# Altium integrated library Micron Memory Parallel NOR Flash.IntLib: 720 symbols (part 38 of 216)
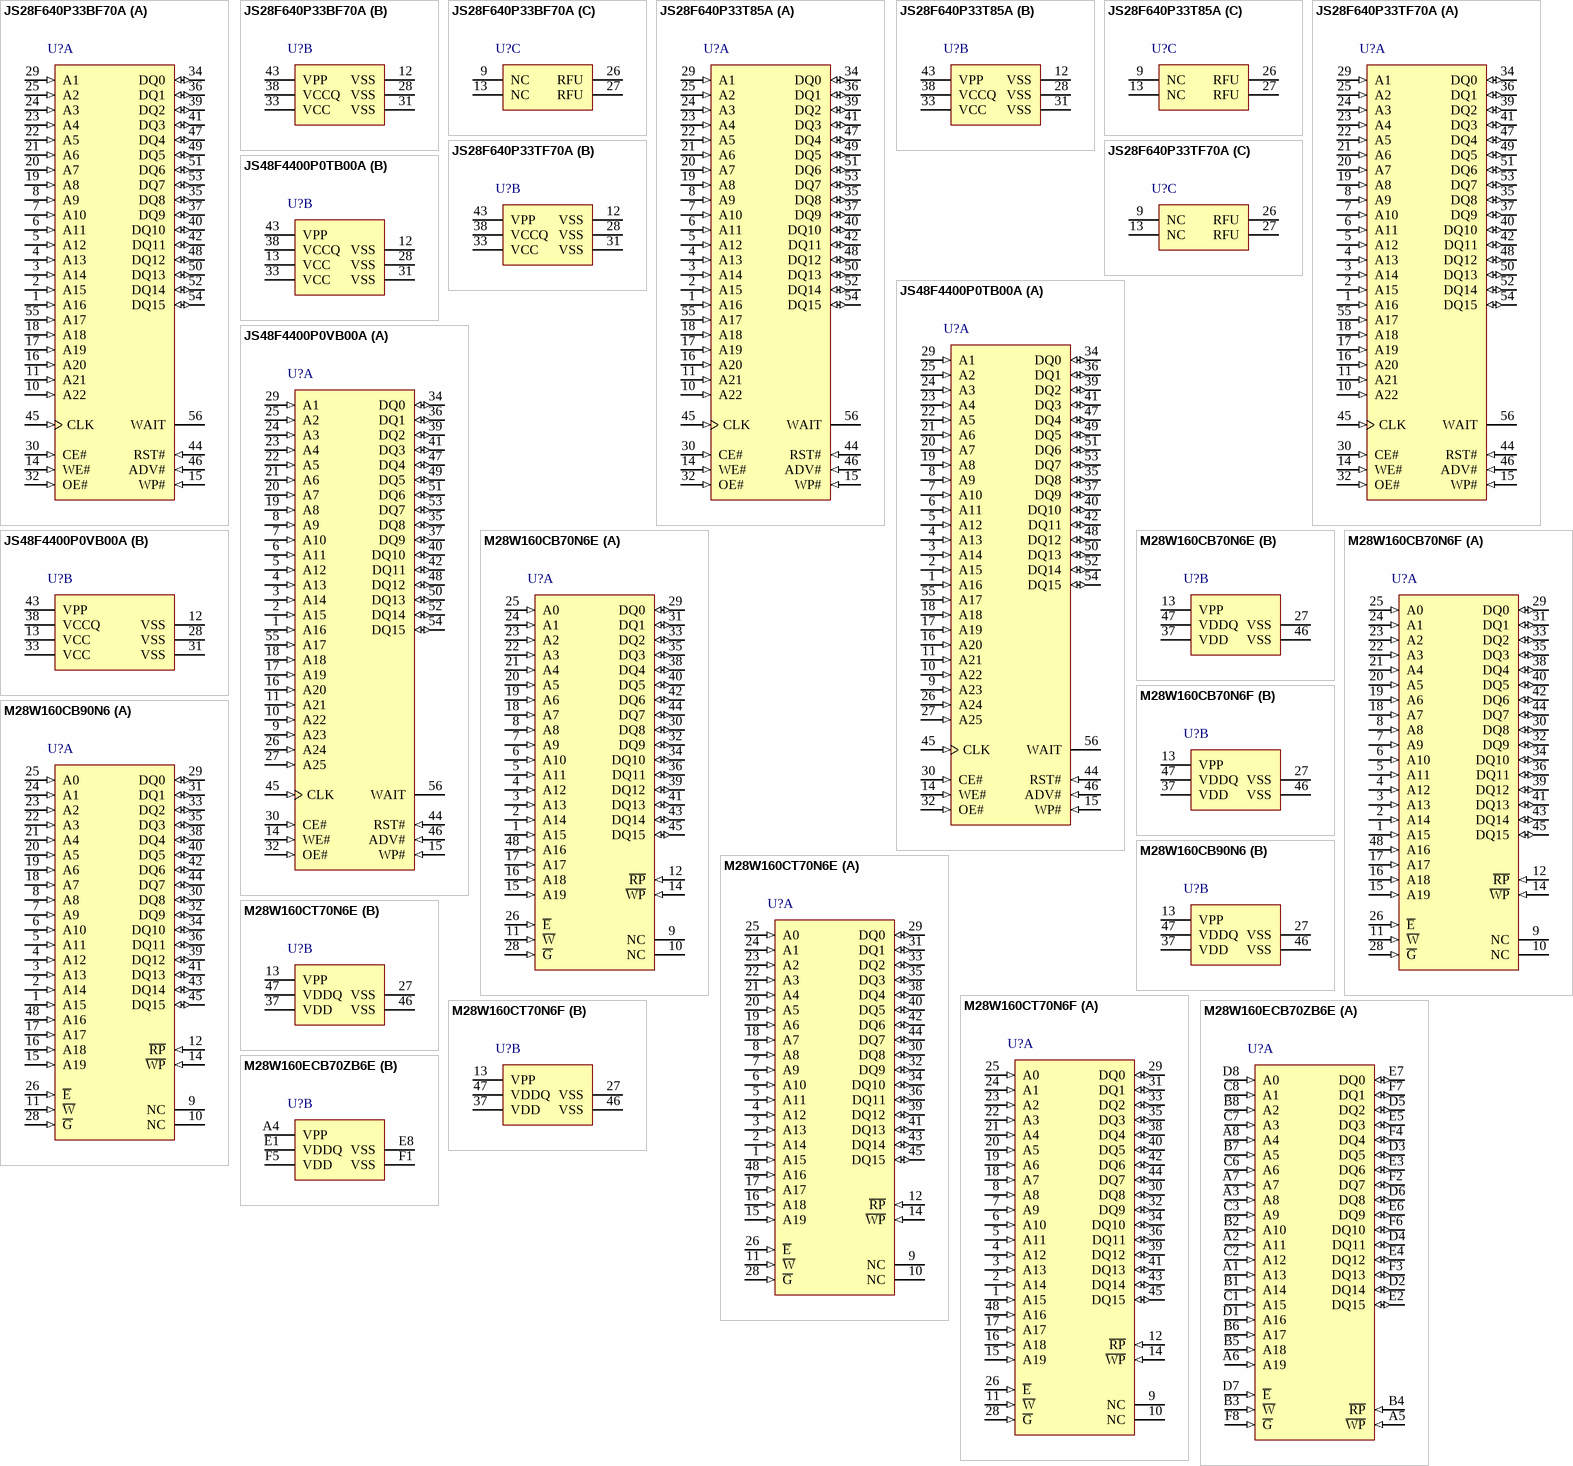
[diagram p95: symbols JS28F640P33BF70A to M28W160ECB70ZB6E]

## M28W160CB70N6E
designator U?
16 Mb (x16) Parallel NOR Flash Memory, 70 ns, 2.7 to 3.6 V, 48-pin TSOP (N), Tray; Part Family: M28W; Manufacturer: Micron; PartNumber: M28W160CB70N6E; Density: 16Mb; Op Temp: -40C to +85C; Speed: 70ns; Voltage: 2.7V-3.6V; DatasheetVersion: Rev.11; PackageVersion: Rev 11; PackageReference: MICT-N-48; PackageDescription: 48-Pin TSOP, 18.4 X 12 mm, Pitch 0.5 mm; RoHS: Yes; Width: x16; Mounting Technology: Surface Mount; ComponentLink1Description: Manufacturer URL; ComponentLink1URL: http://www.micron.com/; ComponentLink2Description: Datasheet; ComponentLink2URL: http://www.micron.com/~/media/Documents/Products/Data%20Sheet/NOR%20Flash/Parallel/M28W/M28W160C.pdf; ComponentLink3Description: Package Specification; ComponentLink3URL: http://www.micron.com/~/media/Documents/Products/Data%20Sheet/NOR%20Flash/Parallel/P30/306666_P30_130nm_Discrete_DS.pdf
footprint MICT-N-48_N (SOP, 48-Leads, Body 12x18.4mm, Pitch 0.5mm, IPC Medium Density)
part A pins: 1 A15 (in) "Address Input (A0-A19). The Address Input select the cells in the memory array to access during Bus Read operations. During Bus Write operations they control the commands sent to the Command Interface of the internal state (See Datasheet)", 2 A14 (in) "Address Input (A0-A19). The Address Input select the cells in the memory array to access during Bus Read operations. During Bus Write operations they control the commands sent to the Command Interface of the internal state (See Datasheet)", 3 A13 (in) "Address Input (A0-A19). The Address Input select the cells in the memory array to access during Bus Read operations. During Bus Write operations they control the commands sent to the Command Interface of the internal state (See Datasheet)", 4 A12 (in) "Address Input (A0-A19). The Address Input select the cells in the memory array to access during Bus Read operations. During Bus Write operations they control the commands sent to the Command Interface of the internal state (See Datasheet)", 5 A11 (in) "Address Input (A0-A19). The Address Input select the cells in the memory array to access during Bus Read operations. During Bus Write operations they control the commands sent to the Command Interface of the internal state (See Datasheet)", 6 A10 (in) "Address Input (A0-A19). The Address Input select the cells in the memory array to access during Bus Read operations. During Bus Write operations they control the commands sent to the Command Interface of the internal state (See Datasheet)", 7 A9 (in) "Address Input (A0-A19). The Address Input select the cells in the memory array to access during Bus Read operations. During Bus Write operations they control the commands sent to the Command Interface of the internal state (See Datasheet)", 8 A8 (in) "Address Input (A0-A19). The Address Input select the cells in the memory array to access during Bus Read operations. During Bus Write operations they control the commands sent to the Command Interface of the internal state (See Datasheet)", 9 NC "Not Connected Internally", 10 NC "Not Connected Internally", 11 ~{W} (in) "Write Enable (W\). The Write Enable controls the Bus Write operation of the memory’s Command Interface. The data and address inputs are latched on the rising edge of Chip Enable, E, or Write Enable, W\, whichever occurs (See Datasheet)", 12 ~{RP} (in) "Reset (R\P\). The Reset input provides a hardware reset of the memory. When Reset is at VIL, the memory is in reset mode: the outputs are high impedance and the current consumption is minimized. After Reset all blocks are in (See Datasheet)", 14 ~{WP} (in) "Write Protect (W\P\). Write Protect is an input that gives an additional hardware protection for each block. When Write Protect is at VIL, the Lock- Down is enabled and the protection status of the block cannot be changed. (See Datasheet)", 15 A19 (in) "Address Input (A0-A19). The Address Input select the cells in the memory array to access during Bus Read operations. During Bus Write operations they control the commands sent to the Command Interface of the internal state (See Datasheet)", 16 A18 (in) "Address Input (A0-A19). The Address Input select the cells in the memory array to access during Bus Read operations. During Bus Write operations they control the commands sent to the Command Interface of the internal state (See Datasheet)", 17 A17 (in) "Address Input (A0-A19). The Address Input select the cells in the memory array to access during Bus Read operations. During Bus Write operations they control the commands sent to the Command Interface of the internal state (See Datasheet)", 18 A7 (in) "Address Input (A0-A19). The Address Input select the cells in the memory array to access during Bus Read operations. During Bus Write operations they control the commands sent to the Command Interface of the internal state (See Datasheet)", 19 A6 (in) "Address Input (A0-A19). The Address Input select the cells in the memory array to access during Bus Read operations. During Bus Write operations they control the commands sent to the Command Interface of the internal state (See Datasheet)", 20 A5 (in) "Address Input (A0-A19). The Address Input select the cells in the memory array to access during Bus Read operations. During Bus Write operations they control the commands sent to the Command Interface of the internal state (See Datasheet)", 21 A4 (in) "Address Input (A0-A19). The Address Input select the cells in the memory array to access during Bus Read operations. During Bus Write operations they control the commands sent to the Command Interface of the internal state (See Datasheet)", 22 A3 (in) "Address Input (A0-A19). The Address Input select the cells in the memory array to access during Bus Read operations. During Bus Write operations they control the commands sent to the Command Interface of the internal state (See Datasheet)", 23 A2 (in) "Address Input (A0-A19). The Address Input select the cells in the memory array to access during Bus Read operations. During Bus Write operations they control the commands sent to the Command Interface of the internal state (See Datasheet)", 24 A1 (in) "Address Input (A0-A19). The Address Input select the cells in the memory array to access during Bus Read operations. During Bus Write operations they control the commands sent to the Command Interface of the internal state (See Datasheet)", 25 A0 (in) "Address Input (A0-A19). The Address Input select the cells in the memory array to access during Bus Read operations. During Bus Write operations they control the commands sent to the Command Interface of the internal state (See Datasheet)", 26 ~{E} (in) "Chip Enable (E\). The Chip Enable input activates the memory control logic, input buffers, decoders and sense amplifiers. When Chip Enable is at VILand Reset is at VIH the device is in active mode. When Chip Enable is at VIH (See Datasheet)", 28 ~{G} (in) "Output Enable (G\). The Output Enable controls data outputs during the Bus Read operation of the memory.", 29 DQ0 (io) "Data Input/Output (DQ0-DQ15). The Data I/O Output the data stored at the selected address during a Bus Read operation or input a command or the data to be programmed during a Write Bus operation.", 30 DQ8 (io) "Data Input/Output (DQ0-DQ15). The Data I/O Output the data stored at the selected address during a Bus Read operation or input a command or the data to be programmed during a Write Bus operation.", 31 DQ1 (io) "Data Input/Output (DQ0-DQ15). The Data I/O Output the data stored at the selected address during a Bus Read operation or input a command or the data to be programmed during a Write Bus operation.", 32 DQ9 (io) "Data Input/Output (DQ0-DQ15). The Data I/O Output the data stored at the selected address during a Bus Read operation or input a command or the data to be programmed during a Write Bus operation.", 33 DQ2 (io) "Data Input/Output (DQ0-DQ15). The Data I/O Output the data stored at the selected address during a Bus Read operation or input a command or the data to be programmed during a Write Bus operation.", 34 DQ10 (io) "Data Input/Output (DQ0-DQ15). The Data I/O Output the data stored at the selected address during a Bus Read operation or input a command or the data to be programmed during a Write Bus operation.", 35 DQ3 (io) "Data Input/Output (DQ0-DQ15). The Data I/O Output the data stored at the selected address during a Bus Read operation or input a command or the data to be programmed during a Write Bus operation.", 36 DQ11 (io) "Data Input/Output (DQ0-DQ15). The Data I/O Output the data stored at the selected address during a Bus Read operation or input a command or the data to be programmed during a Write Bus operation.", 38 DQ4 (io) "Data Input/Output (DQ0-DQ15). The Data I/O Output the data stored at the selected address during a Bus Read operation or input a command or the data to be programmed during a Write Bus operation.", 39 DQ12 (io) "Data Input/Output (DQ0-DQ15). The Data I/O Output the data stored at the selected address during a Bus Read operation or input a command or the data to be programmed during a Write Bus operation.", 40 DQ5 (io) "Data Input/Output (DQ0-DQ15). The Data I/O Output the data stored at the selected address during a Bus Read operation or input a command or the data to be programmed during a Write Bus operation.", 41 DQ13 (io) "Data Input/Output (DQ0-DQ15). The Data I/O Output the data stored at the selected address during a Bus Read operation or input a command or the data to be programmed during a Write Bus operation.", 42 DQ6 (io) "Data Input/Output (DQ0-DQ15). The Data I/O Output the data stored at the selected address during a Bus Read operation or input a command or the data to be programmed during a Write Bus operation.", 43 DQ14 (io) "Data Input/Output (DQ0-DQ15). The Data I/O Output the data stored at the selected address during a Bus Read operation or input a command or the data to be programmed during a Write Bus operation.", 44 DQ7 (io) "Data Input/Output (DQ0-DQ15). The Data I/O Output the data stored at the selected address during a Bus Read operation or input a command or the data to be programmed during a Write Bus operation.", 45 DQ15 (io) "Data Input/Output (DQ0-DQ15). The Data I/O Output the data stored at the selected address during a Bus Read operation or input a command or the data to be programmed during a Write Bus operation.", 48 A16 (in) "Address Input (A0-A19). The Address Input select the cells in the memory array to access during Bus Read operations. During Bus Write operations they control the commands sent to the Command Interface of the internal state (See Datasheet)"
part B pins: 13 VPP (power) "VPP Program Supply Voltage. VPP is both a control input and a power supply pin. The two functions are selected by the voltage range applied to the pin. The Supply Voltage VDD and the Program Supply Voltage VPP can be applied (See Datasheet)", 27 VSS (power) "VSS Ground. VSS is the reference for all voltage measurements.", 37 VDD (power) "VDD Supply Voltage. VDD provides the power supply to the internal core of the memory device. It is the main power supply for all operations (Read, Program and Erase).", 46 VSS (power) "VSS Ground. VSS is the reference for all voltage measurements.", 47 VDDQ (power) "VDDQ Supply Voltage. VDDQ provides the power supply to the I/O pins and enables all Outputs to be powered independently from VDD. VDDQ can be tied to VDD or can use a separate supply."

## M28W160CB70N6F
designator U?
16 Mb (x16) Parallel NOR Flash Memory, 70 ns, 2.7 to 3.6 V, 48-pin TSOP (N), Tape & Reel; Part Family: M28W; Manufacturer: Micron; PartNumber: M28W160CB70N6F; Density: 16Mb; Op Temp: -40C to +85C; Speed: 70ns; Voltage: 2.7V-3.6V; DatasheetVersion: Rev.11; PackageVersion: Rev 11; PackageReference: MICT-N-48; PackageDescription: 48-Pin TSOP, 18.4 X 12 mm, Pitch 0.5 mm; RoHS: Yes; Width: x16; Mounting Technology: Surface Mount; ComponentLink1Description: Manufacturer URL; ComponentLink1URL: http://www.micron.com/; ComponentLink2Description: Datasheet; ComponentLink2URL: http://www.micron.com/~/media/Documents/Products/Data%20Sheet/NOR%20Flash/Parallel/M28W/M28W160C.pdf; ComponentLink3Description: Package Specification; ComponentLink3URL: http://www.micron.com/~/media/Documents/Products/Data%20Sheet/NOR%20Flash/Parallel/P30/306666_P30_130nm_Discrete_DS.pdf
footprint MICT-N-48_N (SOP, 48-Leads, Body 12x18.4mm, Pitch 0.5mm, IPC Medium Density)
part A pins: 1 A15 (in) "Address Input (A0-A19). The Address Input select the cells in the memory array to access during Bus Read operations. During Bus Write operations they control the commands sent to the Command Interface of the internal state (See Datasheet)", 2 A14 (in) "Address Input (A0-A19). The Address Input select the cells in the memory array to access during Bus Read operations. During Bus Write operations they control the commands sent to the Command Interface of the internal state (See Datasheet)", 3 A13 (in) "Address Input (A0-A19). The Address Input select the cells in the memory array to access during Bus Read operations. During Bus Write operations they control the commands sent to the Command Interface of the internal state (See Datasheet)", 4 A12 (in) "Address Input (A0-A19). The Address Input select the cells in the memory array to access during Bus Read operations. During Bus Write operations they control the commands sent to the Command Interface of the internal state (See Datasheet)", 5 A11 (in) "Address Input (A0-A19). The Address Input select the cells in the memory array to access during Bus Read operations. During Bus Write operations they control the commands sent to the Command Interface of the internal state (See Datasheet)", 6 A10 (in) "Address Input (A0-A19). The Address Input select the cells in the memory array to access during Bus Read operations. During Bus Write operations they control the commands sent to the Command Interface of the internal state (See Datasheet)", 7 A9 (in) "Address Input (A0-A19). The Address Input select the cells in the memory array to access during Bus Read operations. During Bus Write operations they control the commands sent to the Command Interface of the internal state (See Datasheet)", 8 A8 (in) "Address Input (A0-A19). The Address Input select the cells in the memory array to access during Bus Read operations. During Bus Write operations they control the commands sent to the Command Interface of the internal state (See Datasheet)", 9 NC "Not Connected Internally", 10 NC "Not Connected Internally", 11 ~{W} (in) "Write Enable (W\). The Write Enable controls the Bus Write operation of the memory’s Command Interface. The data and address inputs are latched on the rising edge of Chip Enable, E, or Write Enable, W\, whichever occurs (See Datasheet)", 12 ~{RP} (in) "Reset (R\P\). The Reset input provides a hardware reset of the memory. When Reset is at VIL, the memory is in reset mode: the outputs are high impedance and the current consumption is minimized. After Reset all blocks are in (See Datasheet)", 14 ~{WP} (in) "Write Protect (W\P\). Write Protect is an input that gives an additional hardware protection for each block. When Write Protect is at VIL, the Lock- Down is enabled and the protection status of the block cannot be changed. (See Datasheet)", 15 A19 (in) "Address Input (A0-A19). The Address Input select the cells in the memory array to access during Bus Read operations. During Bus Write operations they control the commands sent to the Command Interface of the internal state (See Datasheet)", 16 A18 (in) "Address Input (A0-A19). The Address Input select the cells in the memory array to access during Bus Read operations. During Bus Write operations they control the commands sent to the Command Interface of the internal state (See Datasheet)", 17 A17 (in) "Address Input (A0-A19). The Address Input select the cells in the memory array to access during Bus Read operations. During Bus Write operations they control the commands sent to the Command Interface of the internal state (See Datasheet)", 18 A7 (in) "Address Input (A0-A19). The Address Input select the cells in the memory array to access during Bus Read operations. During Bus Write operations they control the commands sent to the Command Interface of the internal state (See Datasheet)", 19 A6 (in) "Address Input (A0-A19). The Address Input select the cells in the memory array to access during Bus Read operations. During Bus Write operations they control the commands sent to the Command Interface of the internal state (See Datasheet)", 20 A5 (in) "Address Input (A0-A19). The Address Input select the cells in the memory array to access during Bus Read operations. During Bus Write operations they control the commands sent to the Command Interface of the internal state (See Datasheet)", 21 A4 (in) "Address Input (A0-A19). The Address Input select the cells in the memory array to access during Bus Read operations. During Bus Write operations they control the commands sent to the Command Interface of the internal state (See Datasheet)", 22 A3 (in) "Address Input (A0-A19). The Address Input select the cells in the memory array to access during Bus Read operations. During Bus Write operations they control the commands sent to the Command Interface of the internal state (See Datasheet)", 23 A2 (in) "Address Input (A0-A19). The Address Input select the cells in the memory array to access during Bus Read operations. During Bus Write operations they control the commands sent to the Command Interface of the internal state (See Datasheet)", 24 A1 (in) "Address Input (A0-A19). The Address Input select the cells in the memory array to access during Bus Read operations. During Bus Write operations they control the commands sent to the Command Interface of the internal state (See Datasheet)", 25 A0 (in) "Address Input (A0-A19). The Address Input select the cells in the memory array to access during Bus Read operations. During Bus Write operations they control the commands sent to the Command Interface of the internal state (See Datasheet)", 26 ~{E} (in) "Chip Enable (E\). The Chip Enable input activates the memory control logic, input buffers, decoders and sense amplifiers. When Chip Enable is at VILand Reset is at VIH the device is in active mode. When Chip Enable is at VIH (See Datasheet)", 28 ~{G} (in) "Output Enable (G\). The Output Enable controls data outputs during the Bus Read operation of the memory.", 29 DQ0 (io) "Data Input/Output (DQ0-DQ15). The Data I/O Output the data stored at the selected address during a Bus Read operation or input a command or the data to be programmed during a Write Bus operation.", 30 DQ8 (io) "Data Input/Output (DQ0-DQ15). The Data I/O Output the data stored at the selected address during a Bus Read operation or input a command or the data to be programmed during a Write Bus operation.", 31 DQ1 (io) "Data Input/Output (DQ0-DQ15). The Data I/O Output the data stored at the selected address during a Bus Read operation or input a command or the data to be programmed during a Write Bus operation.", 32 DQ9 (io) "Data Input/Output (DQ0-DQ15). The Data I/O Output the data stored at the selected address during a Bus Read operation or input a command or the data to be programmed during a Write Bus operation.", 33 DQ2 (io) "Data Input/Output (DQ0-DQ15). The Data I/O Output the data stored at the selected address during a Bus Read operation or input a command or the data to be programmed during a Write Bus operation.", 34 DQ10 (io) "Data Input/Output (DQ0-DQ15). The Data I/O Output the data stored at the selected address during a Bus Read operation or input a command or the data to be programmed during a Write Bus operation.", 35 DQ3 (io) "Data Input/Output (DQ0-DQ15). The Data I/O Output the data stored at the selected address during a Bus Read operation or input a command or the data to be programmed during a Write Bus operation.", 36 DQ11 (io) "Data Input/Output (DQ0-DQ15). The Data I/O Output the data stored at the selected address during a Bus Read operation or input a command or the data to be programmed during a Write Bus operation.", 38 DQ4 (io) "Data Input/Output (DQ0-DQ15). The Data I/O Output the data stored at the selected address during a Bus Read operation or input a command or the data to be programmed during a Write Bus operation.", 39 DQ12 (io) "Data Input/Output (DQ0-DQ15). The Data I/O Output the data stored at the selected address during a Bus Read operation or input a command or the data to be programmed during a Write Bus operation.", 40 DQ5 (io) "Data Input/Output (DQ0-DQ15). The Data I/O Output the data stored at the selected address during a Bus Read operation or input a command or the data to be programmed during a Write Bus operation.", 41 DQ13 (io) "Data Input/Output (DQ0-DQ15). The Data I/O Output the data stored at the selected address during a Bus Read operation or input a command or the data to be programmed during a Write Bus operation.", 42 DQ6 (io) "Data Input/Output (DQ0-DQ15). The Data I/O Output the data stored at the selected address during a Bus Read operation or input a command or the data to be programmed during a Write Bus operation.", 43 DQ14 (io) "Data Input/Output (DQ0-DQ15). The Data I/O Output the data stored at the selected address during a Bus Read operation or input a command or the data to be programmed during a Write Bus operation.", 44 DQ7 (io) "Data Input/Output (DQ0-DQ15). The Data I/O Output the data stored at the selected address during a Bus Read operation or input a command or the data to be programmed during a Write Bus operation.", 45 DQ15 (io) "Data Input/Output (DQ0-DQ15). The Data I/O Output the data stored at the selected address during a Bus Read operation or input a command or the data to be programmed during a Write Bus operation.", 48 A16 (in) "Address Input (A0-A19). The Address Input select the cells in the memory array to access during Bus Read operations. During Bus Write operations they control the commands sent to the Command Interface of the internal state (See Datasheet)"
part B pins: 13 VPP (power) "VPP Program Supply Voltage. VPP is both a control input and a power supply pin. The two functions are selected by the voltage range applied to the pin. The Supply Voltage VDD and the Program Supply Voltage VPP can be applied (See Datasheet)", 27 VSS (power) "VSS Ground. VSS is the reference for all voltage measurements.", 37 VDD (power) "VDD Supply Voltage. VDD provides the power supply to the internal core of the memory device. It is the main power supply for all operations (Read, Program and Erase).", 46 VSS (power) "VSS Ground. VSS is the reference for all voltage measurements.", 47 VDDQ (power) "VDDQ Supply Voltage. VDDQ provides the power supply to the I/O pins and enables all Outputs to be powered independently from VDD. VDDQ can be tied to VDD or can use a separate supply."

## M28W160CB90N6
designator U?
16 Mb (x16) Parallel NOR Flash Memory, 90 ns, 2.7 to 3.6 V, 48-pin TSOP (N), Tray; Part Family: M28W; Manufacturer: Micron; PartNumber: M28W160CB90N6; Density: 16Mb; Op Temp: -40C to +85C; Speed: 90ns; Voltage: 2.7V-3.6V; DatasheetVersion: Rev.11; PackageVersion: Rev 11; PackageReference: MICT-N-48; PackageDescription: 48-Pin TSOP, 18.4 X 12 mm, Pitch 0.5 mm; RoHS: No; Width: x16; Mounting Technology: Surface Mount; ComponentLink1Description: Manufacturer URL; ComponentLink1URL: http://www.micron.com/; ComponentLink2Description: Datasheet; ComponentLink2URL: http://www.micron.com/~/media/Documents/Products/Data%20Sheet/NOR%20Flash/Parallel/M28W/M28W160C.pdf; ComponentLink3Description: Package Specification; ComponentLink3URL: http://www.micron.com/~/media/Documents/Products/Data%20Sheet/NOR%20Flash/Parallel/P30/306666_P30_130nm_Discrete_DS.pdf
footprint MICT-N-48_N (SOP, 48-Leads, Body 12x18.4mm, Pitch 0.5mm, IPC Medium Density)
part A pins: 1 A15 (in) "Address Input (A0-A19). The Address Input select the cells in the memory array to access during Bus Read operations. During Bus Write operations they control the commands sent to the Command Interface of the internal state (See Datasheet)", 2 A14 (in) "Address Input (A0-A19). The Address Input select the cells in the memory array to access during Bus Read operations. During Bus Write operations they control the commands sent to the Command Interface of the internal state (See Datasheet)", 3 A13 (in) "Address Input (A0-A19). The Address Input select the cells in the memory array to access during Bus Read operations. During Bus Write operations they control the commands sent to the Command Interface of the internal state (See Datasheet)", 4 A12 (in) "Address Input (A0-A19). The Address Input select the cells in the memory array to access during Bus Read operations. During Bus Write operations they control the commands sent to the Command Interface of the internal state (See Datasheet)", 5 A11 (in) "Address Input (A0-A19). The Address Input select the cells in the memory array to access during Bus Read operations. During Bus Write operations they control the commands sent to the Command Interface of the internal state (See Datasheet)", 6 A10 (in) "Address Input (A0-A19). The Address Input select the cells in the memory array to access during Bus Read operations. During Bus Write operations they control the commands sent to the Command Interface of the internal state (See Datasheet)", 7 A9 (in) "Address Input (A0-A19). The Address Input select the cells in the memory array to access during Bus Read operations. During Bus Write operations they control the commands sent to the Command Interface of the internal state (See Datasheet)", 8 A8 (in) "Address Input (A0-A19). The Address Input select the cells in the memory array to access during Bus Read operations. During Bus Write operations they control the commands sent to the Command Interface of the internal state (See Datasheet)", 9 NC "Not Connected Internally", 10 NC "Not Connected Internally", 11 ~{W} (in) "Write Enable (W\). The Write Enable controls the Bus Write operation of the memory’s Command Interface. The data and address inputs are latched on the rising edge of Chip Enable, E, or Write Enable, W\, whichever occurs (See Datasheet)", 12 ~{RP} (in) "Reset (R\P\). The Reset input provides a hardware reset of the memory. When Reset is at VIL, the memory is in reset mode: the outputs are high impedance and the current consumption is minimized. After Reset all blocks are in (See Datasheet)", 14 ~{WP} (in) "Write Protect (W\P\). Write Protect is an input that gives an additional hardware protection for each block. When Write Protect is at VIL, the Lock- Down is enabled and the protection status of the block cannot be changed. (See Datasheet)", 15 A19 (in) "Address Input (A0-A19). The Address Input select the cells in the memory array to access during Bus Read operations. During Bus Write operations they control the commands sent to the Command Interface of the internal state (See Datasheet)", 16 A18 (in) "Address Input (A0-A19). The Address Input select the cells in the memory array to access during Bus Read operations. During Bus Write operations they control the commands sent to the Command Interface of the internal state (See Datasheet)", 17 A17 (in) "Address Input (A0-A19). The Address Input select the cells in the memory array to access during Bus Read operations. During Bus Write operations they control the commands sent to the Command Interface of the internal state (See Datasheet)", 18 A7 (in) "Address Input (A0-A19). The Address Input select the cells in the memory array to access during Bus Read operations. During Bus Write operations they control the commands sent to the Command Interface of the internal state (See Datasheet)", 19 A6 (in) "Address Input (A0-A19). The Address Input select the cells in the memory array to access during Bus Read operations. During Bus Write operations they control the commands sent to the Command Interface of the internal state (See Datasheet)", 20 A5 (in) "Address Input (A0-A19). The Address Input select the cells in the memory array to access during Bus Read operations. During Bus Write operations they control the commands sent to the Command Interface of the internal state (See Datasheet)", 21 A4 (in) "Address Input (A0-A19). The Address Input select the cells in the memory array to access during Bus Read operations. During Bus Write operations they control the commands sent to the Command Interface of the internal state (See Datasheet)", 22 A3 (in) "Address Input (A0-A19). The Address Input select the cells in the memory array to access during Bus Read operations. During Bus Write operations they control the commands sent to the Command Interface of the internal state (See Datasheet)", 23 A2 (in) "Address Input (A0-A19). The Address Input select the cells in the memory array to access during Bus Read operations. During Bus Write operations they control the commands sent to the Command Interface of the internal state (See Datasheet)", 24 A1 (in) "Address Input (A0-A19). The Address Input select the cells in the memory array to access during Bus Read operations. During Bus Write operations they control the commands sent to the Command Interface of the internal state (See Datasheet)", 25 A0 (in) "Address Input (A0-A19). The Address Input select the cells in the memory array to access during Bus Read operations. During Bus Write operations they control the commands sent to the Command Interface of the internal state (See Datasheet)", 26 ~{E} (in) "Chip Enable (E\). The Chip Enable input activates the memory control logic, input buffers, decoders and sense amplifiers. When Chip Enable is at VILand Reset is at VIH the device is in active mode. When Chip Enable is at VIH (See Datasheet)", 28 ~{G} (in) "Output Enable (G\). The Output Enable controls data outputs during the Bus Read operation of the memory.", 29 DQ0 (io) "Data Input/Output (DQ0-DQ15). The Data I/O Output the data stored at the selected address during a Bus Read operation or input a command or the data to be programmed during a Write Bus operation.", 30 DQ8 (io) "Data Input/Output (DQ0-DQ15). The Data I/O Output the data stored at the selected address during a Bus Read operation or input a command or the data to be programmed during a Write Bus operation.", 31 DQ1 (io) "Data Input/Output (DQ0-DQ15). The Data I/O Output the data stored at the selected address during a Bus Read operation or input a command or the data to be programmed during a Write Bus operation.", 32 DQ9 (io) "Data Input/Output (DQ0-DQ15). The Data I/O Output the data stored at the selected address during a Bus Read operation or input a command or the data to be programmed during a Write Bus operation.", 33 DQ2 (io) "Data Input/Output (DQ0-DQ15). The Data I/O Output the data stored at the selected address during a Bus Read operation or input a command or the data to be programmed during a Write Bus operation.", 34 DQ10 (io) "Data Input/Output (DQ0-DQ15). The Data I/O Output the data stored at the selected address during a Bus Read operation or input a command or the data to be programmed during a Write Bus operation.", 35 DQ3 (io) "Data Input/Output (DQ0-DQ15). The Data I/O Output the data stored at the selected address during a Bus Read operation or input a command or the data to be programmed during a Write Bus operation.", 36 DQ11 (io) "Data Input/Output (DQ0-DQ15). The Data I/O Output the data stored at the selected address during a Bus Read operation or input a command or the data to be programmed during a Write Bus operation.", 38 DQ4 (io) "Data Input/Output (DQ0-DQ15). The Data I/O Output the data stored at the selected address during a Bus Read operation or input a command or the data to be programmed during a Write Bus operation.", 39 DQ12 (io) "Data Input/Output (DQ0-DQ15). The Data I/O Output the data stored at the selected address during a Bus Read operation or input a command or the data to be programmed during a Write Bus operation.", 40 DQ5 (io) "Data Input/Output (DQ0-DQ15). The Data I/O Output the data stored at the selected address during a Bus Read operation or input a command or the data to be programmed during a Write Bus operation.", 41 DQ13 (io) "Data Input/Output (DQ0-DQ15). The Data I/O Output the data stored at the selected address during a Bus Read operation or input a command or the data to be programmed during a Write Bus operation.", 42 DQ6 (io) "Data Input/Output (DQ0-DQ15). The Data I/O Output the data stored at the selected address during a Bus Read operation or input a command or the data to be programmed during a Write Bus operation.", 43 DQ14 (io) "Data Input/Output (DQ0-DQ15). The Data I/O Output the data stored at the selected address during a Bus Read operation or input a command or the data to be programmed during a Write Bus operation.", 44 DQ7 (io) "Data Input/Output (DQ0-DQ15). The Data I/O Output the data stored at the selected address during a Bus Read operation or input a command or the data to be programmed during a Write Bus operation.", 45 DQ15 (io) "Data Input/Output (DQ0-DQ15). The Data I/O Output the data stored at the selected address during a Bus Read operation or input a command or the data to be programmed during a Write Bus operation.", 48 A16 (in) "Address Input (A0-A19). The Address Input select the cells in the memory array to access during Bus Read operations. During Bus Write operations they control the commands sent to the Command Interface of the internal state (See Datasheet)"
part B pins: 13 VPP (power) "VPP Program Supply Voltage. VPP is both a control input and a power supply pin. The two functions are selected by the voltage range applied to the pin. The Supply Voltage VDD and the Program Supply Voltage VPP can be applied (See Datasheet)", 27 VSS (power) "VSS Ground. VSS is the reference for all voltage measurements.", 37 VDD (power) "VDD Supply Voltage. VDD provides the power supply to the internal core of the memory device. It is the main power supply for all operations (Read, Program and Erase).", 46 VSS (power) "VSS Ground. VSS is the reference for all voltage measurements.", 47 VDDQ (power) "VDDQ Supply Voltage. VDDQ provides the power supply to the I/O pins and enables all Outputs to be powered independently from VDD. VDDQ can be tied to VDD or can use a separate supply."

## M28W160CT70N6E
designator U?
16 Mb (x16) Parallel NOR Flash Memory, 70 ns, 2.7 to 3.6 V, 48-pin TSOP (N), Tray; Part Family: M28W; Manufacturer: Micron; PartNumber: M28W160CT70N6E; Density: 16Mb; Op Temp: -40C to +85C; Speed: 70ns; Voltage: 2.7V-3.6V; DatasheetVersion: Rev.11; PackageVersion: Rev 11; PackageReference: MICT-N-48; PackageDescription: 48-Pin TSOP, 18.4 X 12 mm, Pitch 0.5 mm; RoHS: Yes; Width: x16; Mounting Technology: Surface Mount; ComponentLink1Description: Manufacturer URL; ComponentLink1URL: http://www.micron.com/; ComponentLink2Description: Datasheet; ComponentLink2URL: http://www.micron.com/~/media/Documents/Products/Data%20Sheet/NOR%20Flash/Parallel/M28W/M28W160C.pdf; ComponentLink3Description: Package Specification; ComponentLink3URL: http://www.micron.com/~/media/Documents/Products/Data%20Sheet/NOR%20Flash/Parallel/P30/306666_P30_130nm_Discrete_DS.pdf
footprint MICT-N-48_N (SOP, 48-Leads, Body 12x18.4mm, Pitch 0.5mm, IPC Medium Density)
part A pins: 1 A15 (in) "Address Input (A0-A19). The Address Input select the cells in the memory array to access during Bus Read operations. During Bus Write operations they control the commands sent to the Command Interface of the internal state (See Datasheet)", 2 A14 (in) "Address Input (A0-A19). The Address Input select the cells in the memory array to access during Bus Read operations. During Bus Write operations they control the commands sent to the Command Interface of the internal state (See Datasheet)", 3 A13 (in) "Address Input (A0-A19). The Address Input select the cells in the memory array to access during Bus Read operations. During Bus Write operations they control the commands sent to the Command Interface of the internal state (See Datasheet)", 4 A12 (in) "Address Input (A0-A19). The Address Input select the cells in the memory array to access during Bus Read operations. During Bus Write operations they control the commands sent to the Command Interface of the internal state (See Datasheet)", 5 A11 (in) "Address Input (A0-A19). The Address Input select the cells in the memory array to access during Bus Read operations. During Bus Write operations they control the commands sent to the Command Interface of the internal state (See Datasheet)", 6 A10 (in) "Address Input (A0-A19). The Address Input select the cells in the memory array to access during Bus Read operations. During Bus Write operations they control the commands sent to the Command Interface of the internal state (See Datasheet)", 7 A9 (in) "Address Input (A0-A19). The Address Input select the cells in the memory array to access during Bus Read operations. During Bus Write operations they control the commands sent to the Command Interface of the internal state (See Datasheet)", 8 A8 (in) "Address Input (A0-A19). The Address Input select the cells in the memory array to access during Bus Read operations. During Bus Write operations they control the commands sent to the Command Interface of the internal state (See Datasheet)", 9 NC "Not Connected Internally", 10 NC "Not Connected Internally", 11 ~{W} (in) "Write Enable (W\). The Write Enable controls the Bus Write operation of the memory’s Command Interface. The data and address inputs are latched on the rising edge of Chip Enable, E, or Write Enable, W\, whichever occurs (See Datasheet)", 12 ~{RP} (in) "Reset (R\P\). The Reset input provides a hardware reset of the memory. When Reset is at VIL, the memory is in reset mode: the outputs are high impedance and the current consumption is minimized. After Reset all blocks are in (See Datasheet)", 14 ~{WP} (in) "Write Protect (W\P\). Write Protect is an input that gives an additional hardware protection for each block. When Write Protect is at VIL, the Lock- Down is enabled and the protection status of the block cannot be changed. (See Datasheet)", 15 A19 (in) "Address Input (A0-A19). The Address Input select the cells in the memory array to access during Bus Read operations. During Bus Write operations they control the commands sent to the Command Interface of the internal state (See Datasheet)", 16 A18 (in) "Address Input (A0-A19). The Address Input select the cells in the memory array to access during Bus Read operations. During Bus Write operations they control the commands sent to the Command Interface of the internal state (See Datasheet)", 17 A17 (in) "Address Input (A0-A19). The Address Input select the cells in the memory array to access during Bus Read operations. During Bus Write operations they control the commands sent to the Command Interface of the internal state (See Datasheet)", 18 A7 (in) "Address Input (A0-A19). The Address Input select the cells in the memory array to access during Bus Read operations. During Bus Write operations they control the commands sent to the Command Interface of the internal state (See Datasheet)", 19 A6 (in) "Address Input (A0-A19). The Address Input select the cells in the memory array to access during Bus Read operations. During Bus Write operations they control the commands sent to the Command Interface of the internal state (See Datasheet)", 20 A5 (in) "Address Input (A0-A19). The Address Input select the cells in the memory array to access during Bus Read operations. During Bus Write operations they control the commands sent to the Command Interface of the internal state (See Datasheet)", 21 A4 (in) "Address Input (A0-A19). The Address Input select the cells in the memory array to access during Bus Read operations. During Bus Write operations they control the commands sent to the Command Interface of the internal state (See Datasheet)", 22 A3 (in) "Address Input (A0-A19). The Address Input select the cells in the memory array to access during Bus Read operations. During Bus Write operations they control the commands sent to the Command Interface of the internal state (See Datasheet)", 23 A2 (in) "Address Input (A0-A19). The Address Input select the cells in the memory array to access during Bus Read operations. During Bus Write operations they control the commands sent to the Command Interface of the internal state (See Datasheet)", 24 A1 (in) "Address Input (A0-A19). The Address Input select the cells in the memory array to access during Bus Read operations. During Bus Write operations they control the commands sent to the Command Interface of the internal state (See Datasheet)", 25 A0 (in) "Address Input (A0-A19). The Address Input select the cells in the memory array to access during Bus Read operations. During Bus Write operations they control the commands sent to the Command Interface of the internal state (See Datasheet)", 26 ~{E} (in) "Chip Enable (E\). The Chip Enable input activates the memory control logic, input buffers, decoders and sense amplifiers. When Chip Enable is at VILand Reset is at VIH the device is in active mode. When Chip Enable is at VIH (See Datasheet)", 28 ~{G} (in) "Output Enable (G\). The Output Enable controls data outputs during the Bus Read operation of the memory.", 29 DQ0 (io) "Data Input/Output (DQ0-DQ15). The Data I/O Output the data stored at the selected address during a Bus Read operation or input a command or the data to be programmed during a Write Bus operation.", 30 DQ8 (io) "Data Input/Output (DQ0-DQ15). The Data I/O Output the data stored at the selected address during a Bus Read operation or input a command or the data to be programmed during a Write Bus operation.", 31 DQ1 (io) "Data Input/Output (DQ0-DQ15). The Data I/O Output the data stored at the selected address during a Bus Read operation or input a command or the data to be programmed during a Write Bus operation.", 32 DQ9 (io) "Data Input/Output (DQ0-DQ15). The Data I/O Output the data stored at the selected address during a Bus Read operation or input a command or the data to be programmed during a Write Bus operation.", 33 DQ2 (io) "Data Input/Output (DQ0-DQ15). The Data I/O Output the data stored at the selected address during a Bus Read operation or input a command or the data to be programmed during a Write Bus operation.", 34 DQ10 (io) "Data Input/Output (DQ0-DQ15). The Data I/O Output the data stored at the selected address during a Bus Read operation or input a command or the data to be programmed during a Write Bus operation.", 35 DQ3 (io) "Data Input/Output (DQ0-DQ15). The Data I/O Output the data stored at the selected address during a Bus Read operation or input a command or the data to be programmed during a Write Bus operation.", 36 DQ11 (io) "Data Input/Output (DQ0-DQ15). The Data I/O Output the data stored at the selected address during a Bus Read operation or input a command or the data to be programmed during a Write Bus operation.", 38 DQ4 (io) "Data Input/Output (DQ0-DQ15). The Data I/O Output the data stored at the selected address during a Bus Read operation or input a command or the data to be programmed during a Write Bus operation.", 39 DQ12 (io) "Data Input/Output (DQ0-DQ15). The Data I/O Output the data stored at the selected address during a Bus Read operation or input a command or the data to be programmed during a Write Bus operation.", 40 DQ5 (io) "Data Input/Output (DQ0-DQ15). The Data I/O Output the data stored at the selected address during a Bus Read operation or input a command or the data to be programmed during a Write Bus operation.", 41 DQ13 (io) "Data Input/Output (DQ0-DQ15). The Data I/O Output the data stored at the selected address during a Bus Read operation or input a command or the data to be programmed during a Write Bus operation.", 42 DQ6 (io) "Data Input/Output (DQ0-DQ15). The Data I/O Output the data stored at the selected address during a Bus Read operation or input a command or the data to be programmed during a Write Bus operation.", 43 DQ14 (io) "Data Input/Output (DQ0-DQ15). The Data I/O Output the data stored at the selected address during a Bus Read operation or input a command or the data to be programmed during a Write Bus operation.", 44 DQ7 (io) "Data Input/Output (DQ0-DQ15). The Data I/O Output the data stored at the selected address during a Bus Read operation or input a command or the data to be programmed during a Write Bus operation.", 45 DQ15 (io) "Data Input/Output (DQ0-DQ15). The Data I/O Output the data stored at the selected address during a Bus Read operation or input a command or the data to be programmed during a Write Bus operation.", 48 A16 (in) "Address Input (A0-A19). The Address Input select the cells in the memory array to access during Bus Read operations. During Bus Write operations they control the commands sent to the Command Interface of the internal state (See Datasheet)"
part B pins: 13 VPP (power) "VPP Program Supply Voltage. VPP is both a control input and a power supply pin. The two functions are selected by the voltage range applied to the pin. The Supply Voltage VDD and the Program Supply Voltage VPP can be applied (See Datasheet)", 27 VSS (power) "VSS Ground. VSS is the reference for all voltage measurements.", 37 VDD (power) "VDD Supply Voltage. VDD provides the power supply to the internal core of the memory device. It is the main power supply for all operations (Read, Program and Erase).", 46 VSS (power) "VSS Ground. VSS is the reference for all voltage measurements.", 47 VDDQ (power) "VDDQ Supply Voltage. VDDQ provides the power supply to the I/O pins and enables all Outputs to be powered independently from VDD. VDDQ can be tied to VDD or can use a separate supply."